# EAGLE library part ESP32-D0WDQ6 (library ESP32-D0WDQ6)
Check availability <https://pricing.snapeda.com/parts/ESP32-D0WDQ6/Espressif%20Systems/view-part?ref=eda>
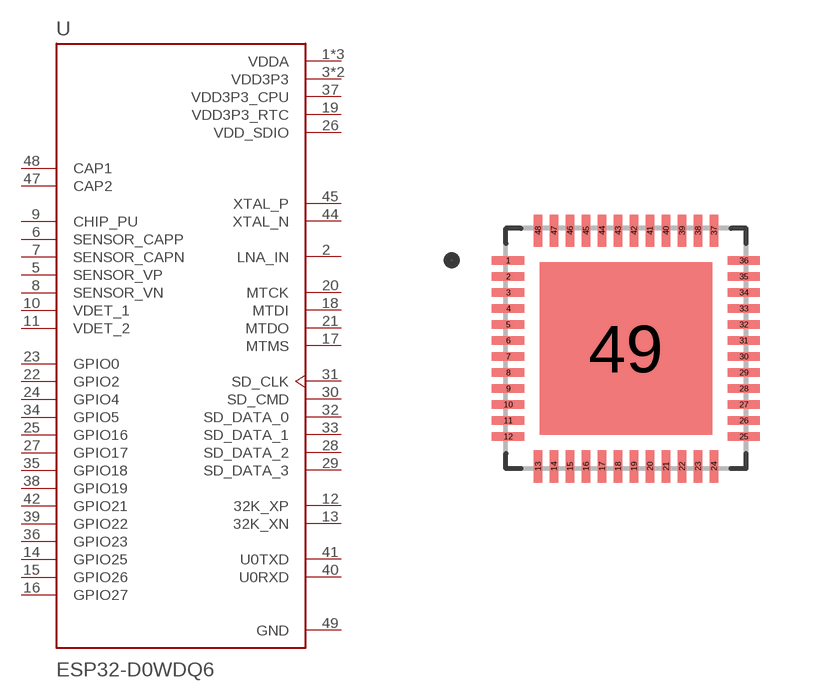
[diagram p0: symbol with the pads of QFN40P600X600X90-49N; footprint QFN40P600X600X90-49N]

Designator prefix U

## ESP32-D0WDQ6 (AVAILABILITY: In Stock; CHECK_PRICES: https://www.snapeda.com/parts/ESP32-D0WDQ6/Espressif+Systems/view-part/?ref=eda; DESCRIPTION: IC RF TxRx + MCU Bluetooth, WiFi 802.11b/g/n, Bluetooth 4.2 2.412GHz ~ 2.484GHz 48-VFQFN Exposed Pad; MF: Espressif Systems; MP: ESP32-D0WDQ6; PACKAGE: VFQFN-48 Espressif Systems; PRICE: None; SNAPEDA_LINK: https://www.snapeda.com/parts/ESP32-D0WDQ6/Espressif+Systems/view-part/?ref=snap)  [QFN40P600X600X90-49N]
1  VDDA  pwr
2  LNA_IN
3  VDD3P3  pwr
4  VDD3P3  pwr
5  SENSOR_VP  in
6  SENSOR_CAPP  in
7  SENSOR_CAPN  in
8  SENSOR_VN  in
9  CHIP_PU  in
10  VDET_1  in
11  VDET_2  in
12  32K_XP
13  32K_XN
14  GPIO25
15  GPIO26
16  GPIO27
17  MTMS
18  MTDI
19  VDD3P3_RTC  pwr
20  MTCK
21  MTDO
22  GPIO2
23  GPIO0
24  GPIO4
25  GPIO16
26  VDD_SDIO  pwr
27  GPIO17
28  SD_DATA_2
29  SD_DATA_3
30  SD_CMD
31  SD_CLK
32  SD_DATA_0
33  SD_DATA_1
34  GPIO5
35  GPIO18
36  GPIO23
37  VDD3P3_CPU  pwr
38  GPIO19
39  GPIO22
40  U0RXD
41  U0TXD
42  GPIO21
43  VDDA  pwr
44  XTAL_N  out
45  XTAL_P  in
46  VDDA  pwr
47  CAP2  in
48  CAP1  in
49  GND  pwr

## Footprint QFN40P600X600X90-49N (pad centres in mm)
smd 0.81 x 0.22: 1 -2.945,2.2; 2 -2.945,1.8; 3 -2.945,1.4; 4 -2.945,1; 5 -2.945,0.6; 6 -2.945,0.2; 7 -2.945,-0.2; 8 -2.945,-0.6; 9 -2.945,-1; 10 -2.945,-1.4; 11 -2.945,-1.8; 12 -2.945,-2.2; 25 2.945,-2.2; 26 2.945,-1.8; 27 2.945,-1.4; 28 2.945,-1; 29 2.945,-0.6; 30 2.945,-0.2; 31 2.945,0.2; 32 2.945,0.6; 33 2.945,1; 34 2.945,1.4; 35 2.945,1.8; 36 2.945,2.2
smd 0.22 x 0.81: 13 -2.2,-2.945; 14 -1.8,-2.945; 15 -1.4,-2.945; 16 -1,-2.945; 17 -0.6,-2.945; 18 -0.2,-2.945; 19 0.2,-2.945; 20 0.6,-2.945; 21 1,-2.945; 22 1.4,-2.945; 23 1.8,-2.945; 24 2.2,-2.945; 37 2.2,2.945; 38 1.8,2.945; 39 1.4,2.945; 40 1,2.945; 41 0.6,2.945; 42 0.2,2.945; 43 -0.2,2.945; 44 -0.6,2.945; 45 -1,2.945; 46 -1.4,2.945; 47 -1.8,2.945; 48 -2.2,2.945
smd 4.3 x 4.3: 49 0,0